# Altium integrated library 3pines.IntLib: 1 symbol
Pins are listed as number, name and electrical type; pins without a type are passive.

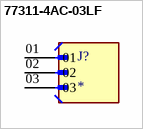
[diagram p0: symbol 77311-4AC-03LF]

## 77311-4AC-03LF
designator J?
MP: 77311-4AC-03LF; MF: {'manufacturer': u'Amphenol ICC (FCI)'}; Package: None; Availability: Unavailable; Value: *; Price: None
footprint AMPHENOL_77311-4AC-03LF
pins: 01, 02, 03